# Altium integrated library TI Converter Frequency to Voltage.IntLib: 4 symbols
Pins are listed as number, name and electrical type; pins without a type are passive.

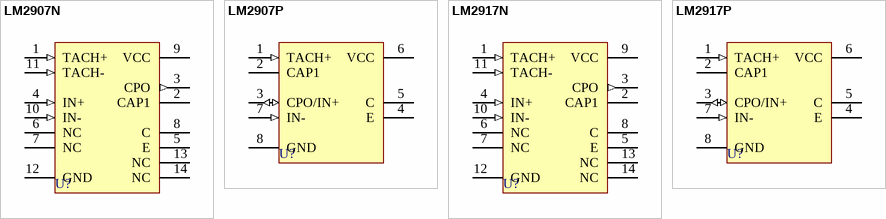
[diagram p0: symbols LM2907N to LM2917P]

## LM2907N
designator U?
Frequency-To-Voltage Converters; Published: 15-Apr-2002; LatestRevisionDate: 08-Jul-2005; LatestRevisionNote: Stylized 3D Model Added.; DatasheetVersion: Oct-1988; PackageVersion: Oct-1995; PackageReference: N014; Publisher: Altium Limited; PackageDescription: DIP; 14 Leads; Row Spacing 7.62 mm; Pitch 2.54 mm; ComponentLink1Description: Manufacturer Link; ComponentLink1URL: http://www.ti.com/
footprint N014 (DIP; 14 Leads; Row Spacing 7.62 mm; Pitch 2.54 mm)
3D model N014 (DIP; 14 Leads; Row Spacing 7.62 mm; Pitch 2.54 mm)
pins: 1 TACH+ (in), 2 CAP1, 3 CPO (out), 4 IN+ (in), 5 E, 6 NC, 7 NC, 8 C, 9 VCC (power), 10 IN- (in), 11 TACH- (in), 12 GND (power), 13 NC, 14 NC

## LM2907P
designator U?
Frequency-To-Voltage Converters; Published: 15-Apr-2002; LatestRevisionDate: 08-Jul-2005; LatestRevisionNote: Stylized 3D Model Added.; DatasheetVersion: Oct-1988; PackageVersion: Jun-1999; PackageReference: P008; Publisher: Altium Limited; PackageDescription: DIP; 8 Leads; Row Spacing 7.62 mm; Pitch 2.54 mm; Code_JEDEC: MO-001-AN; ComponentLink1Description: Manufacturer Link; ComponentLink1URL: http://www.ti.com/
footprint P008 (DIP; 8 Leads; Row Spacing 7.62 mm; Pitch 2.54 mm)
3D model P008 (DIP; 8 Leads; Row Spacing 7.62 mm; Pitch 2.54 mm)
pins: 1 TACH+ (in), 2 CAP1, 3 CPO/IN+ (io), 4 E, 5 C, 6 VCC (power), 7 IN- (in), 8 GND (power)

## LM2917N
designator U?
Frequency-To-Voltage Converters; Published: 15-Apr-2002; LatestRevisionDate: 08-Jul-2005; LatestRevisionNote: Stylized 3D Model Added.; DatasheetVersion: Oct-1988; PackageVersion: Oct-1995; PackageReference: N014; Publisher: Altium Limited; PackageDescription: DIP; 14 Leads; Row Spacing 7.62 mm; Pitch 2.54 mm; ComponentLink1Description: Manufacturer Link; ComponentLink1URL: http://www.ti.com/
footprint N014 (DIP; 14 Leads; Row Spacing 7.62 mm; Pitch 2.54 mm)
3D model N014 (DIP; 14 Leads; Row Spacing 7.62 mm; Pitch 2.54 mm)
pins: 1 TACH+ (in), 2 CAP1, 3 CPO (out), 4 IN+ (in), 5 E, 6 NC, 7 NC, 8 C, 9 VCC (power), 10 IN- (in), 11 TACH- (in), 12 GND (power), 13 NC, 14 NC

## LM2917P
designator U?
Frequency-To-Voltage Converters; Published: 15-Apr-2002; LatestRevisionDate: 08-Jul-2005; LatestRevisionNote: Stylized 3D Model Added.; DatasheetVersion: Oct-1988; PackageVersion: Jun-1999; PackageReference: P008; Publisher: Altium Limited; PackageDescription: DIP; 8 Leads; Row Spacing 7.62 mm; Pitch 2.54 mm; Code_JEDEC: MO-001-AN; ComponentLink1Description: Manufacturer Link; ComponentLink1URL: http://www.ti.com/
footprint P008 (DIP; 8 Leads; Row Spacing 7.62 mm; Pitch 2.54 mm)
3D model P008 (DIP; 8 Leads; Row Spacing 7.62 mm; Pitch 2.54 mm)
pins: 1 TACH+ (in), 2 CAP1, 3 CPO/IN+ (io), 4 E, 5 C, 6 VCC (power), 7 IN- (in), 8 GND (power)